# Altium footprint library Zarlink Footprints.PcbLib: 95 footprints (part 2 of 6)
Each footprint in its own frame and in the unit in brackets; x right, y up, seen from the top. Pads: shape width x height; smd on the part's side, far side on the other; paste and mask are expansions set on the pad; w line width, h text height; cw(c..) or ccw(c..) is an arc to the next point about the centre after c.
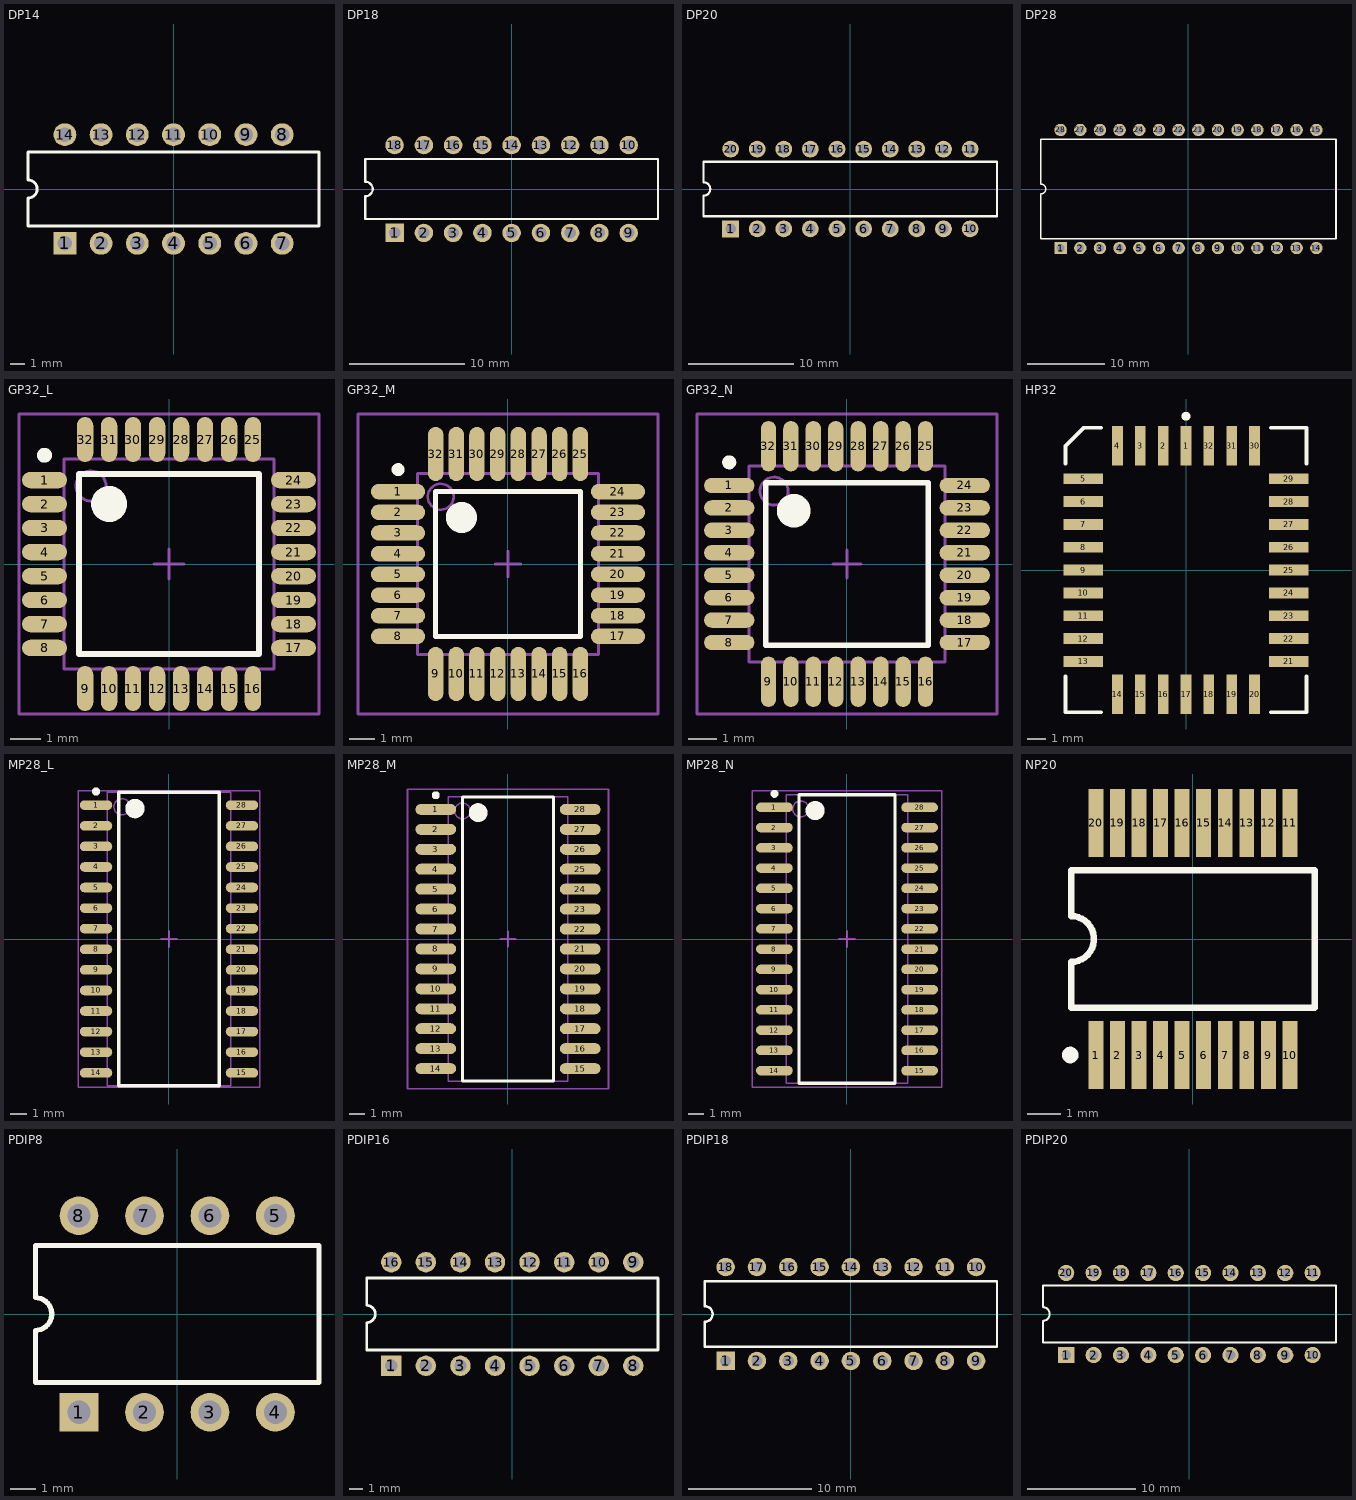
[diagram p1: the footprints below, top view; thin cyan lines are the x and y axes]

## DP14 [mm] "DIP; 14 Leads; Row Spacing 7.62 mm; Pitch 2.54 mm"
height 5.08
pads (14):
  rect 1.6x1.6 hole 1: 1(-7.62,-3.81)
  round 1.6 hole 1: 2(-5.08,-3.81) 3(-2.54,-3.81) 4(0,-3.81) 5(2.54,-3.81) 6(5.08,-3.81) 7(7.62,-3.81) 8(7.62,3.81) 9(5.08,3.81) 10(2.54,3.81) 11(0,3.81) 12(-2.54,3.81) 13(-5.08,3.81) 14(-7.62,3.81)
Top Overlay:
  lines w0.2: -10.2,-2.6 -10.2,-0.635 ccw(c-10.2,0) -10.2,0.635 -10.2,2.6 10.2,2.6 10.2,-2.6 -10.2,-2.6

## DP18 [mm] "DIP; 18 Leads; Row Spacing 7.62 mm; Pitch 2.54 mm"
height 5.08
pads (18):
  rect 1.6x1.6 hole 1: 1(-10.16,-3.81)
  round 1.6 hole 1: 2(-7.62,-3.81) 3(-5.08,-3.81) 4(-2.54,-3.81) 5(0,-3.81) 6(2.54,-3.81) 7(5.08,-3.81) 8(7.62,-3.81) 9(10.16,-3.81) 10(10.16,3.81) 11(7.62,3.81) 12(5.08,3.81) 13(2.54,3.81) 14(0,3.81) 15(-2.54,3.81) 16(-5.08,3.81) 17(-7.62,3.81) 18(-10.16,3.81)
Top Overlay:
  lines w0.2: -12.7,-2.6 12.7,-2.6 12.7,2.6 -12.7,2.6 -12.7,0.635 cw(c-12.7,0) -12.7,-0.635 -12.7,-2.6

## DP20 [mm] "DIP; 20 Leads; Row Spacing 7.62 mm; Pitch 2.54 mm"
height 5.08
pads (20):
  rect 1.6x1.6 hole 1: 1(-11.43,-3.81)
  round 1.6 hole 1: 2(-8.89,-3.81) 3(-6.35,-3.81) 4(-3.81,-3.81) 5(-1.27,-3.81) 6(1.27,-3.81) 7(3.81,-3.81) 8(6.35,-3.81) 9(8.89,-3.81) 10(11.43,-3.81) 11(11.43,3.81) 12(8.89,3.81) 13(6.35,3.81) 14(3.81,3.81) 15(1.27,3.81) 16(-1.27,3.81) 17(-3.81,3.81) 18(-6.35,3.81) 19(-8.89,3.81) 20(-11.43,3.81)
Top Overlay:
  lines w0.2: -14,-2.6 -14,-0.635 ccw(c-14,0) -14,0.635 -14,2.6 14,2.6 14,-2.6 -14,-2.6

## DP28 [mm] "DIP; 28 Leads; Row Spacing 15.24 mm; Pitch 2.54 mm"
height 5.08
pads (28):
  rect 1.6x1.6 hole 1: 1(-16.51,-7.62)
  round 1.6 hole 1: 2(-13.97,-7.62) 3(-11.43,-7.62) 4(-8.89,-7.62) 5(-6.35,-7.62) 6(-3.81,-7.62) 7(-1.27,-7.62) 8(1.27,-7.62) 9(3.81,-7.62) 10(6.35,-7.62) 11(8.89,-7.62) 12(11.43,-7.62) 13(13.97,-7.62) 14(16.51,-7.62) 15(16.51,7.62) 16(13.97,7.62) 17(11.43,7.62) 18(8.89,7.62) 19(6.35,7.62) 20(3.81,7.62) 21(1.27,7.62) 22(-1.27,7.62) 23(-3.81,7.62) 24(-6.35,7.62) 25(-8.89,7.62) 26(-11.43,7.62) 27(-13.97,7.62) 28(-16.51,7.62)
Top Overlay:
  lines w0.2: -19.05,-6.4 -19.05,-0.635 ccw(c-19.05,0) -19.05,0.635 -19.05,6.4 19.05,6.4 19.05,-6.4 -19.05,-6.4

## GP32_L [mm] "32-Pin Thin Quad Flat Pack 0.8 mm Pitch, IPC High Density"
height 1.2
pads (32):
  oval 1.5x0.55 smd: 1(-4.15,2.8) 2(-4.15,2) 3(-4.15,1.2) 4(-4.15,0.4) 5(-4.15,-0.4) 6(-4.15,-1.2) 7(-4.15,-2) 8(-4.15,-2.8) 17(4.15,-2.8) 18(4.15,-2) 19(4.15,-1.2) 20(4.15,-0.4) 21(4.15,0.4) 22(4.15,1.2) 23(4.15,2) 24(4.15,2.8)
  oval 0.55x1.5 smd: 9(-2.8,-4.15) 10(-2,-4.15) 11(-1.2,-4.15) 12(-0.4,-4.15) 13(0.4,-4.15) 14(1.2,-4.15) 15(2,-4.15) 16(2.8,-4.15) 25(2.8,4.15) 26(2,4.15) 27(1.2,4.15) 28(0.4,4.15) 29(-0.4,4.15) 30(-1.2,4.15) 31(-2,4.15) 32(-2.8,4.15)
Top Overlay:
  circle w0.6: c-2,2 r0.3
  circle w0.25: c-4.15,3.625 r0.125
  lines w0.2: -3,-3 3,-3 3,3 -3,3 -3,-3
Mechanical 13:
  circle w0.1: c-2.6,2.6 r0.5
  lines w0.1: -3.5,-3.5 3.5,-3.5 3.5,3.5 -3.5,3.5 -3.5,-3.5
Mechanical 15:
  lines w0.1: -0.5,0 0.5,0 ; 0,-0.5 0,0.5 ; -5,-5 5,-5 5,5 -5,5 -5,-5
3D body: height 1.2, standoff 0, extent -3.5,-3.5 3.5,3.5

## GP32_M [mm] "32-Pin Thin Quad Flat Pack 0.8 mm Pitch, IPC Low Density"
height 1.2
pads (32):
  oval 2.1x0.6 smd: 1(-4.25,2.8) 2(-4.25,2) 3(-4.25,1.2) 4(-4.25,0.4) 5(-4.25,-0.4) 6(-4.25,-1.2) 7(-4.25,-2) 8(-4.25,-2.8) 17(4.25,-2.8) 18(4.25,-2) 19(4.25,-1.2) 20(4.25,-0.4) 21(4.25,0.4) 22(4.25,1.2) 23(4.25,2) 24(4.25,2.8)
  oval 0.6x2.1 smd: 9(-2.8,-4.25) 10(-2,-4.25) 11(-1.2,-4.25) 12(-0.4,-4.25) 13(0.4,-4.25) 14(1.2,-4.25) 15(2,-4.25) 16(2.8,-4.25) 25(2.8,4.25) 26(2,4.25) 27(1.2,4.25) 28(0.4,4.25) 29(-0.4,4.25) 30(-1.2,4.25) 31(-2,4.25) 32(-2.8,4.25)
Top Overlay:
  circle w0.6: c-1.8,1.8 r0.3
  circle w0.25: c-4.25,3.65 r0.125
  lines w0.2: -2.8,-2.8 2.8,-2.8 2.8,2.8 -2.8,2.8 -2.8,-2.8
Mechanical 13:
  circle w0.1: c-2.6,2.6 r0.5
  lines w0.1: -3.5,-3.5 3.5,-3.5 3.5,3.5 -3.5,3.5 -3.5,-3.5
Mechanical 15:
  lines w0.1: -0.5,0 0.5,0 ; 0,-0.5 0,0.5 ; -5.8,-5.8 5.8,-5.8 5.8,5.8 -5.8,5.8 -5.8,-5.8
3D body: height 1.2, standoff 0, extent -3.5,-3.5 3.5,3.5

## GP32_N [mm] "32-Pin Thin Quad Flat Pack 0.8 mm Pitch, IPC Medium Density"
height 1.2
pads (32):
  oval 1.8x0.55 smd: 1(-4.2,2.8) 2(-4.2,2) 3(-4.2,1.2) 4(-4.2,0.4) 5(-4.2,-0.4) 6(-4.2,-1.2) 7(-4.2,-2) 8(-4.2,-2.8) 17(4.2,-2.8) 18(4.2,-2) 19(4.2,-1.2) 20(4.2,-0.4) 21(4.2,0.4) 22(4.2,1.2) 23(4.2,2) 24(4.2,2.8)
  oval 0.55x1.8 smd: 9(-2.8,-4.2) 10(-2,-4.2) 11(-1.2,-4.2) 12(-0.4,-4.2) 13(0.4,-4.2) 14(1.2,-4.2) 15(2,-4.2) 16(2.8,-4.2) 25(2.8,4.2) 26(2,4.2) 27(1.2,4.2) 28(0.4,4.2) 29(-0.4,4.2) 30(-1.2,4.2) 31(-2,4.2) 32(-2.8,4.2)
Top Overlay:
  circle w0.6: c-1.9,1.9 r0.3
  circle w0.25: c-4.2,3.625 r0.125
  lines w0.2: -2.9,-2.9 2.9,-2.9 2.9,2.9 -2.9,2.9 -2.9,-2.9
Mechanical 13:
  circle w0.1: c-2.6,2.6 r0.5
  lines w0.1: -3.5,-3.5 3.5,-3.5 3.5,3.5 -3.5,3.5 -3.5,-3.5
Mechanical 15:
  lines w0.1: -0.5,0 0.5,0 ; 0,-0.5 0,0.5 ; -5.35,-5.35 5.35,-5.35 5.35,5.35 -5.35,5.35 -5.35,-5.35
3D body: height 1.2, standoff 0, extent -3.5,-3.5 3.5,3.5

## HP32 [mm] "Leaded Chip Carrier; 32 Leads; Body 11.4 x 14 mm"
height 3.55
pads (32):
  rect 0.6x2.2 smd: 1(0,6.9) 2(-1.27,6.9) 3(-2.54,6.9) 4(-3.81,6.9) 14(-3.81,-6.9) 15(-2.54,-6.9) 16(-1.27,-6.9) 17(0,-6.9) 18(1.27,-6.9) 19(2.54,-6.9) 20(3.81,-6.9) 30(3.81,6.9) 31(2.54,6.9) 32(1.27,6.9)
  rect 2.2x0.6 smd: 5(-5.7,5.08) 6(-5.7,3.81) 7(-5.7,2.54) 8(-5.7,1.27) 9(-5.7,0) 10(-5.7,-1.27) 11(-5.7,-2.54) 12(-5.7,-3.81) 13(-5.7,-5.08) 21(5.7,-5.08) 22(5.7,-3.81) 23(5.7,-2.54) 24(5.7,-1.27) 25(5.7,0) 26(5.7,1.27) 27(5.7,2.54) 28(5.7,3.81) 29(5.7,5.08)
Top Overlay:
  circle w0.25: c0,8.55 r0.125
  lines w0.2: -6.7,-5.9 -6.7,-7.9 -4.7,-7.9 ; -6.7,5.9 -6.7,6.9 -5.7,7.9 -4.7,7.9 ; 4.7,-7.9 6.7,-7.9 6.7,-5.9 ; 4.7,7.9 6.7,7.9 6.7,5.9

## MP28_L [mm] "28-Pin Small Outline Integrated Circuit 1.27 mm Pitch, IPC High Density"
height 2.64
pads (28):
  oval 2x0.6 smd: 1(-4.5,8.255) 2(-4.5,6.985) 3(-4.5,5.715) 4(-4.5,4.445) 5(-4.5,3.175) 6(-4.5,1.905) 7(-4.5,0.635) 8(-4.5,-0.635) 9(-4.5,-1.905) 10(-4.5,-3.175) 11(-4.5,-4.445) 12(-4.5,-5.715) 13(-4.5,-6.985) 14(-4.5,-8.255) 15(4.5,-8.255) 16(4.5,-6.985) 17(4.5,-5.715) 18(4.5,-4.445) 19(4.5,-3.175) 20(4.5,-1.905) 21(4.5,-0.635) 22(4.5,0.635) 23(4.5,1.905) 24(4.5,3.175) 25(4.5,4.445) 26(4.5,5.715) 27(4.5,6.985) 28(4.5,8.255)
Top Overlay:
  circle w0.25: c-4.5,9.105 r0.125
  circle w0.6: c-2.1,8.05 r0.3
  lines w0.2: -3.1,-9.05 -3.1,9.05 3.1,9.05 3.1,-9.05 -3.1,-9.05
Mechanical 13:
  circle w0.1: c-2.9,8.155 r0.5
  lines w0.1: -3.8,-9.055 -3.8,9.055 3.8,9.055 3.8,-9.055 -3.8,-9.055
Mechanical 15:
  lines w0.1: -0.5,0 0.5,0 ; 0,-0.5 0,0.5 ; -5.6,-9.15 -5.6,9.15 5.6,9.15 5.6,-9.15 -5.6,-9.15
3D body: height 2.64, standoff 0, extent -3.8,-9.055 3.8,9.055

## MP28_M [mm] "28-Pin Small Outline Integrated Circuit 1.27 mm Pitch, IPC Low Density"
height 2.64
pads (28):
  oval 2.6x0.7 smd: 1(-4.6,8.255) 2(-4.6,6.985) 3(-4.6,5.715) 4(-4.6,4.445) 5(-4.6,3.175) 6(-4.6,1.905) 7(-4.6,0.635) 8(-4.6,-0.635) 9(-4.6,-1.905) 10(-4.6,-3.175) 11(-4.6,-4.445) 12(-4.6,-5.715) 13(-4.6,-6.985) 14(-4.6,-8.255) 15(4.6,-8.255) 16(4.6,-6.985) 17(4.6,-5.715) 18(4.6,-4.445) 19(4.6,-3.175) 20(4.6,-1.905) 21(4.6,-0.635) 22(4.6,0.635) 23(4.6,1.905) 24(4.6,3.175) 25(4.6,4.445) 26(4.6,5.715) 27(4.6,6.985) 28(4.6,8.255)
Top Overlay:
  circle w0.6: c-1.9,8.05 r0.3
  circle w0.25: c-4.6,9.155 r0.125
  lines w0.2: -2.9,-9.05 2.9,-9.05 2.9,9.05 -2.9,9.05 -2.9,-9.05
Mechanical 13:
  circle w0.1: c-2.9,8.155 r0.5
  lines w0.1: -3.8,-9.055 3.8,-9.055 3.8,9.055 -3.8,9.055 -3.8,-9.055
Mechanical 15:
  lines w0.1: -0.5,0 0.5,0 ; 0,-0.5 0,0.5 ; -6.4,-9.55 6.4,-9.55 6.4,9.55 -6.4,9.55 -6.4,-9.55
3D body: height 2.64, standoff 0, extent -3.8,-9.055 3.8,9.055

## MP28_N [mm] "28-Pin Small Outline Integrated Circuit 1.27 mm Pitch, IPC Medium Density"
height 2.64
pads (28):
  oval 2.3x0.6 smd: 1(-4.55,8.255) 2(-4.55,6.985) 3(-4.55,5.715) 4(-4.55,4.445) 5(-4.55,3.175) 6(-4.55,1.905) 7(-4.55,0.635) 8(-4.55,-0.635) 9(-4.55,-1.905) 10(-4.55,-3.175) 11(-4.55,-4.445) 12(-4.55,-5.715) 13(-4.55,-6.985) 14(-4.55,-8.255) 15(4.55,-8.255) 16(4.55,-6.985) 17(4.55,-5.715) 18(4.55,-4.445) 19(4.55,-3.175) 20(4.55,-1.905) 21(4.55,-0.635) 22(4.55,0.635) 23(4.55,1.905) 24(4.55,3.175) 25(4.55,4.445) 26(4.55,5.715) 27(4.55,6.985) 28(4.55,8.255)
Top Overlay:
  circle w0.25: c-4.55,9.105 r0.125
  circle w0.6: c-2,8.05 r0.3
  lines w0.2: -3,-9.05 -3,9.05 3,9.05 3,-9.05 -3,-9.05
Mechanical 13:
  circle w0.1: c-2.9,8.155 r0.5
  lines w0.1: -3.8,-9.055 -3.8,9.055 3.8,9.055 3.8,-9.055 -3.8,-9.055
Mechanical 15:
  lines w0.1: -0.5,0 0.5,0 ; 0,-0.5 0,0.5 ; -5.95,-9.3 -5.95,9.3 5.95,9.3 5.95,-9.3 -5.95,-9.3
3D body: height 2.64, standoff 0, extent -3.8,-9.055 3.8,9.055

## NP20 [mm] "SSOP; 20 Leads; Body Width 5.3 mm; Pitch 0.65 mm"
height 1.99
pads (20):
  rect 0.45x2.05 smd: 1(-2.925,-3.5) 2(-2.275,-3.5) 3(-1.625,-3.5) 4(-0.975,-3.5) 5(-0.325,-3.5) 6(0.325,-3.5) 7(0.975,-3.5) 8(1.625,-3.5) 9(2.275,-3.5) 10(2.925,-3.5) 11(2.925,3.5) 12(2.275,3.5) 13(1.625,3.5) 14(0.975,3.5) 15(0.325,3.5) 16(-0.325,3.5) 17(-0.975,3.5) 18(-1.625,3.5) 19(-2.275,3.5) 20(-2.925,3.5)
Top Overlay:
  circle w0.25: c-3.7,-3.5 r0.125
  lines w0.2: -3.675,-2.075 3.675,-2.075 3.675,2.075 -3.675,2.075 -3.675,0.692 cw(c-3.675,0) -3.675,-0.692 -3.675,-2.075

## PDIP8 [mm] "DIP; 8 Leads; Row Spacing 7.62 mm; Pitch 2.54 mm"
height 5.33
pads (8):
  rect 1.5x1.5 hole 0.9: 1(-3.81,-3.81)
  round 1.5 hole 0.9: 2(-1.27,-3.81) 3(1.27,-3.81) 4(3.81,-3.81) 5(3.81,3.81) 6(1.27,3.81) 7(-1.27,3.81) 8(-3.81,3.81)
Top Overlay:
  lines w0.2: -5.5,-2.65 -5.5,-0.635 ccw(c-5.5,0) -5.5,0.635 -5.5,2.65 5.5,2.65 5.5,-2.65 -5.5,-2.65

## PDIP16 [mm] "DIP; 16 Leads; Row Spacing 7.62 mm; Pitch 2.54 mm"
height 5.33
pads (16):
  rect 1.5x1.5 hole 0.9: 1(-8.89,-3.81)
  round 1.5 hole 0.9: 2(-6.35,-3.81) 3(-3.81,-3.81) 4(-1.27,-3.81) 5(1.27,-3.81) 6(3.81,-3.81) 7(6.35,-3.81) 8(8.89,-3.81) 9(8.89,3.81) 10(6.35,3.81) 11(3.81,3.81) 12(1.27,3.81) 13(-1.27,3.81) 14(-3.81,3.81) 15(-6.35,3.81) 16(-8.89,3.81)
Top Overlay:
  lines w0.2: -10.7,-2.65 -10.7,-0.635 ccw(c-10.7,0) -10.7,0.635 -10.7,2.65 10.7,2.65 10.7,-2.65 -10.7,-2.65

## PDIP18 [mm] "DIP; 18 Leads; Row Spacing 7.62 mm; Pitch 2.54 mm"
height 5.33
pads (18):
  rect 1.5x1.5 hole 0.9: 1(-10.16,-3.81)
  round 1.5 hole 0.9: 2(-7.62,-3.81) 3(-5.08,-3.81) 4(-2.54,-3.81) 5(0,-3.81) 6(2.54,-3.81) 7(5.08,-3.81) 8(7.62,-3.81) 9(10.16,-3.81) 10(10.16,3.81) 11(7.62,3.81) 12(5.08,3.81) 13(2.54,3.81) 14(0,3.81) 15(-2.54,3.81) 16(-5.08,3.81) 17(-7.62,3.81) 18(-10.16,3.81)
Top Overlay:
  lines w0.2: -11.85,-2.65 11.85,-2.65 11.85,2.65 -11.85,2.65 -11.85,0.635 cw(c-11.85,0) -11.85,-0.635 -11.85,-2.65

## PDIP20 [mm] "DIP; 20 Leads; Row Spacing 7.62 mm; Pitch 2.54 mm"
height 5.33
pads (20):
  rect 1.5x1.5 hole 0.9: 1(-11.43,-3.81)
  round 1.5 hole 0.9: 2(-8.89,-3.81) 3(-6.35,-3.81) 4(-3.81,-3.81) 5(-1.27,-3.81) 6(1.27,-3.81) 7(3.81,-3.81) 8(6.35,-3.81) 9(8.89,-3.81) 10(11.43,-3.81) 11(11.43,3.81) 12(8.89,3.81) 13(6.35,3.81) 14(3.81,3.81) 15(1.27,3.81) 16(-1.27,3.81) 17(-3.81,3.81) 18(-6.35,3.81) 19(-8.89,3.81) 20(-11.43,3.81)
Top Overlay:
  lines w0.2: -13.6,-2.65 13.6,-2.65 13.6,2.65 -13.6,2.65 -13.6,0.635 cw(c-13.6,0) -13.6,-0.635 -13.6,-2.65